# Altium footprint library 继电器.PcbLib: 48 footprints (part 3 of 3)
Each footprint in its own frame and in the unit in brackets; x right, y up, seen from the top. Pads: shape width x height; smd on the part's side, far side on the other; paste and mask are expansions set on the pad; w line width, h text height; cw(c..) or ccw(c..) is an arc to the next point about the centre after c.
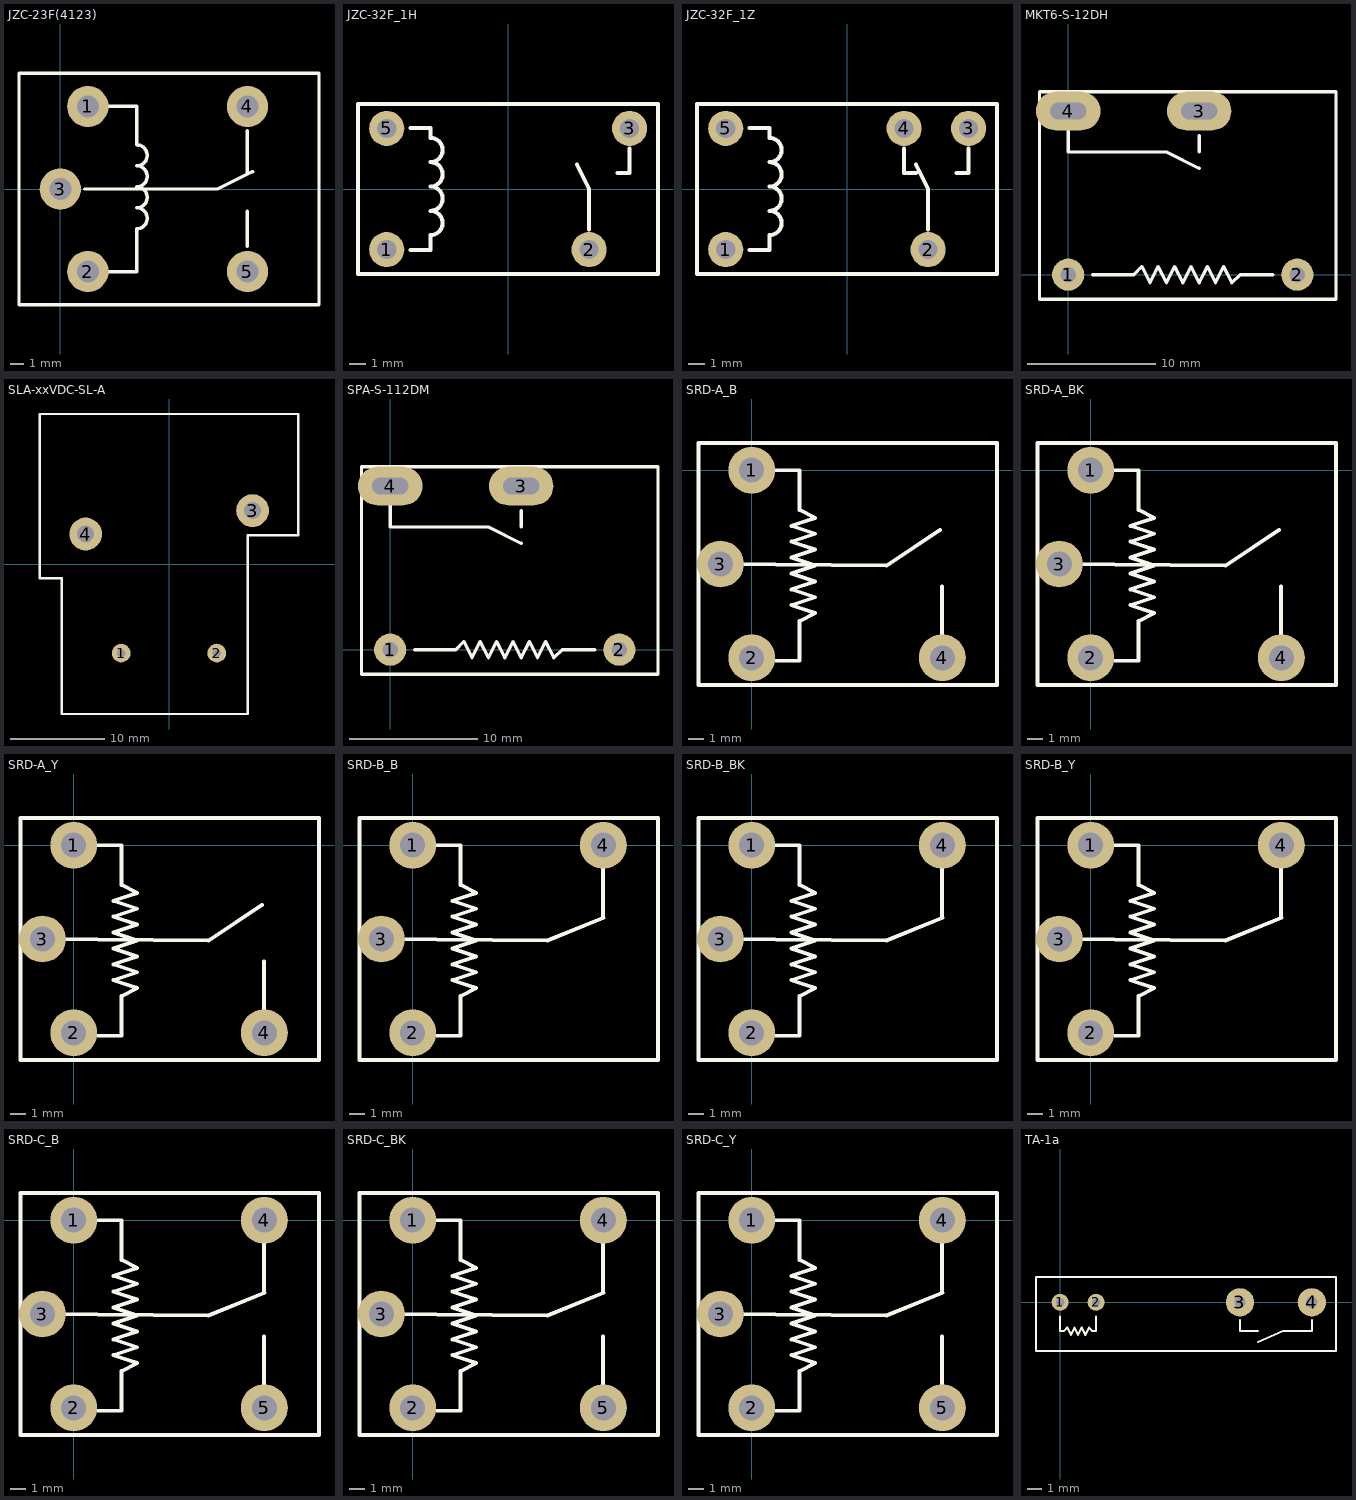
[diagram p2: the footprints below, top view; thin cyan lines are the x and y axes]

## JZC-23F(4123) [mm] "单刀双投"
pads (5):
  round 3 hole 1.6: 1(2,6) 2(2,-6) 3(0,0) 4(13.6,6) 5(13.6,-6)
Top Overlay:
  lines w0.254: 1.778,0 11.43,0 13.97,1.27 ; 3.524,-6 5.556,-6 5.556,-2.89 ccw(c5.556,-2.128) 5.556,-1.366 ccw(c5.556,-0.604) 5.556,0.158 ccw(c5.556,0.92) 5.556,1.682 ccw(c5.556,2.444) 5.556,3.206 5.556,6 3.524,6 ; 13.6,-4.16 13.6,-1.62 ; 13.6,1.174 13.6,4.222 ; -3,-8.4 18.8,-8.4 18.8,8.4 -3,8.4 -3,-8.4
3D body "JZC-23F(4123)-.STEP": height 16.1, standoff -4, extent -2.899,-8.382 18.901,8.418

## JZC-32F_1H [mm] "单刀常开,长：18.4mm，宽：10.2mm，高：15.3mm"
pads (4):
  round 2.2 hole 1.2: 1(-7.6,-3.8) 2(5.08,-3.8) 3(7.62,3.8) 5(-7.6,3.8)
Top Overlay:
  lines w0.25: 4.318,1.524 5.08,0 5.08,-2.54 ; 6.858,1.016 7.62,1.016 7.62,2.54 ; -9.398,-5.334 -9.398,5.334 9.398,5.334 9.398,-5.334 -9.398,-5.334
  lines w0.254: -6.096,-3.81 -4.858,-3.81 -4.858,-2.89 ccw(c-4.858,-2.128) -4.858,-1.366 ccw(c-4.858,-0.604) -4.858,0.158 ccw(c-4.858,0.92) -4.858,1.682 ccw(c-4.858,2.444) -4.858,3.206 -4.858,3.81 -6.096,3.81
3D body "JZC-32F_1H-.STEP": height 15.75, standoff -3.55, extent -9.2,-5.12 9.2,5.08

## JZC-32F_1Z [mm] "单刀双投,长：18.4mm，宽：10.2mm，高：15.3mm"
pads (5):
  round 2.2 hole 1.2: 1(-7.6,-3.8) 2(5.08,-3.8) 3(7.62,3.8) 4(3.58,3.8) 5(-7.6,3.8)
Top Overlay:
  lines w0.25: 3.556,2.54 3.556,1.016 4.318,1.016 ; 4.318,1.524 5.08,0 5.08,-2.54 ; 6.858,1.016 7.62,1.016 7.62,2.54 ; -9.398,-5.334 9.398,-5.334 9.398,5.334 -9.398,5.334 -9.398,-5.334
  lines w0.254: -6.096,-3.81 -4.858,-3.81 -4.858,-2.89 ccw(c-4.858,-2.128) -4.858,-1.366 ccw(c-4.858,-0.604) -4.858,0.158 ccw(c-4.858,0.92) -4.858,1.682 ccw(c-4.858,2.444) -4.858,3.206 -4.858,3.81 -6.096,3.81
3D body "JZC-32F_1Z-.STEP": height 15.75, standoff -3.55, extent -9.2,-5.12 9.2,5.08

## MKT6-S-12DH [mm] "单刀单投/常开"
pads (4):
  round 2.5 hole 1.2: 1(0,0) 2(17.78,0)
  oval 5x3 hole 1.3 slot 2.8 at 0 deg: 3(10.16,12.7) 4(0,12.7)
Top Overlay:
  lines w0.254: 0,11.43 0,9.525 6.985,9.525 7.62,9.525 10.16,8.255 ; 1.905,0 5.08,0 5.715,0.635 6.35,-0.635 6.985,0.635 7.62,-0.635 8.255,0.635 8.89,-0.635 9.525,0.635 10.16,-0.635 10.795,0.635 11.43,-0.635 12.065,0.635 12.7,-0.635 13.335,0 15.875,0 ; 10.16,9.525 10.16,10.795 ; -2.22,-1.9 20.78,-1.9 20.78,14.2 -2.22,14.2 -2.22,-1.9
3D body "MKT6-S-12DH-.STEP": height 10.2, standoff -3.9, extent -2.229,-1.876 20.771,14.224

## SLA-xxVDC-SL-A [mm] "一组常开，长：32mm，宽：27.6mm，高：20mm"
pads (4):
  round 2 hole 0.9: 1(-5.1,-9.5) 2(5.1,-9.5)
  round 3.5 hole 1.8: 3(8.91,5.7) 4(-8.89,3.2)
Top Overlay:
  lines w0.254: -13.8,-1.522 -11.43,-1.522 -11.43,-16 8.382,-16 8.382,3.05 13.8,3.05 13.8,16.002 -13.8,16.002 -13.8,-1.522
3D body "SLA-xxVDC-SL-A-.STEP": height 20.65, standoff -2.95, extent -13.843,-15.873 13.757,16.127

## SPA-S-112DM [mm] "单刀单投/常开"
pads (4):
  round 2.5 hole 1.2: 1(0,0) 2(17.78,0)
  oval 5x3 hole 1.3 slot 2.8 at 0 deg: 3(10.16,12.7) 4(0,12.7)
Top Overlay:
  lines w0.254: 0,11.43 0,9.525 6.985,9.525 7.62,9.525 10.16,8.255 ; 1.905,0 5.08,0 5.715,0.635 6.35,-0.635 6.985,0.635 7.62,-0.635 8.255,0.635 8.89,-0.635 9.525,0.635 10.16,-0.635 10.795,0.635 11.43,-0.635 12.065,0.635 12.7,-0.635 13.335,0 15.875,0 ; 10.16,9.525 10.16,10.795 ; -2.22,-1.9 20.78,-1.9 20.78,14.2 -2.22,14.2 -2.22,-1.9
3D body "SPA-S-112DM-.STEP": height 10.2, standoff -3.9, extent -2.286,-1.954 20.714,14.146

## SRD-A_B [mm] "单刀单投/常开"
pads (4):
  round 3 hole 1.6: 1(0,0) 2(0,-12) 3(-2,-6) 4(12.2,-12)
Top Overlay:
  lines w0.254: -2,-6 8.636,-6.096 12.065,-3.81 ; 1.524,-12.192 3.048,-12.192 3.048,-10.668 3.048,-9.652 4.064,-9.144 2.54,-8.636 4.064,-8.128 2.54,-7.62 4.064,-7.112 2.54,-6.604 4.064,-6.096 2.54,-5.588 4.064,-5.08 2.54,-4.572 4.064,-4.064 2.54,-3.556 4.064,-3.048 3.048,-2.54 3.048,0 1.524,0 ; 12.192,-10.668 12.192,-8.636 ; 12.192,-9.144 12.192,-7.429 ; -3.4,-13.75 -3.4,1.75 15.7,1.75 15.7,-13.75 -3.4,-13.75
3D body "SRD-A_B-.STEP": height 15.6, standoff -3.4, extent -3.429,-13.719 15.671,1.781

## SRD-A_BK [mm] "单刀单投/常开"
pads (4):
  round 3 hole 1.6: 1(0,0) 2(0,-12) 3(-2,-6) 4(12.2,-12)
Top Overlay:
  lines w0.254: -2,-6 8.636,-6.096 12.065,-3.81 ; 1.524,-12.192 3.048,-12.192 3.048,-10.668 3.048,-9.652 4.064,-9.144 2.54,-8.636 4.064,-8.128 2.54,-7.62 4.064,-7.112 2.54,-6.604 4.064,-6.096 2.54,-5.588 4.064,-5.08 2.54,-4.572 4.064,-4.064 2.54,-3.556 4.064,-3.048 3.048,-2.54 3.048,0 1.524,0 ; 12.192,-10.668 12.192,-8.636 ; 12.192,-9.144 12.192,-7.429 ; -3.4,-13.75 15.7,-13.75 15.7,1.75 -3.4,1.75 -3.4,-13.75
3D body "SRD-A_BK-.STEP": height 15.6, standoff -3.4, extent -3.302,-13.719 15.798,1.781

## SRD-A_Y [mm] "单刀单投/常开"
pads (4):
  round 3 hole 1.6: 1(0,0) 2(0,-12) 3(-2,-6) 4(12.2,-12)
Top Overlay:
  lines w0.254: -2,-6 8.636,-6.096 12.065,-3.81 ; 1.524,-12.192 3.048,-12.192 3.048,-10.668 3.048,-9.652 4.064,-9.144 2.54,-8.636 4.064,-8.128 2.54,-7.62 4.064,-7.112 2.54,-6.604 4.064,-6.096 2.54,-5.588 4.064,-5.08 2.54,-4.572 4.064,-4.064 2.54,-3.556 4.064,-3.048 3.048,-2.54 3.048,0 1.524,0 ; 12.192,-10.668 12.192,-8.636 ; 12.192,-9.144 12.192,-7.429 ; -3.4,-13.75 -3.4,1.75 15.7,1.75 15.7,-13.75 -3.4,-13.75
3D body "SRD-A_Y-.STEP": height 15.6, standoff -3.4, extent -3.429,-13.719 15.671,1.781

## SRD-B_B [mm] "单刀单投/常闭"
pads (4):
  round 3 hole 1.6: 1(0,0) 2(0,-12) 3(-2,-6) 4(12.2,0)
Top Overlay:
  lines w0.254: -2,-6 8.636,-6.096 12.22,-4.64 ; 1.524,-12.192 3.048,-12.192 3.048,-10.668 3.048,-9.652 4.064,-9.144 2.54,-8.636 4.064,-8.128 2.54,-7.62 4.064,-7.112 2.54,-6.604 4.064,-6.096 2.54,-5.588 4.064,-5.08 2.54,-4.572 4.064,-4.064 2.54,-3.556 4.064,-3.048 3.048,-2.54 3.048,0 1.524,0 ; 12.192,-4.572 12.192,-1.524 ; -3.4,-13.75 -3.4,1.75 15.7,1.75 15.7,-13.75 -3.4,-13.75
3D body "SRD-B_B-.STEP": height 15.6, standoff -3.4, extent -3.429,-13.846 15.671,1.654

## SRD-B_BK [mm] "单刀单投/常闭"
pads (4):
  round 3 hole 1.6: 1(0,0) 2(0,-12) 3(-2,-6) 4(12.2,0)
Top Overlay:
  lines w0.254: -2,-6 8.636,-6.096 12.22,-4.64 ; 1.524,-12.192 3.048,-12.192 3.048,-10.668 3.048,-9.652 4.064,-9.144 2.54,-8.636 4.064,-8.128 2.54,-7.62 4.064,-7.112 2.54,-6.604 4.064,-6.096 2.54,-5.588 4.064,-5.08 2.54,-4.572 4.064,-4.064 2.54,-3.556 4.064,-3.048 3.048,-2.54 3.048,0 1.524,0 ; 12.192,-4.572 12.192,-1.524 ; -3.4,-13.75 -3.4,1.75 15.7,1.75 15.7,-13.75 -3.4,-13.75
3D body "SRD-B_BK-.STEP": height 15.6, standoff -3.4, extent -3.327,-13.843 15.773,1.657

## SRD-B_Y [mm] "单刀单投/常闭"
pads (4):
  round 3 hole 1.6: 1(0,0) 2(0,-12) 3(-2,-6) 4(12.2,0)
Top Overlay:
  lines w0.254: -2,-6 8.636,-6.096 12.22,-4.64 ; 1.524,-12.192 3.048,-12.192 3.048,-10.668 3.048,-9.652 4.064,-9.144 2.54,-8.636 4.064,-8.128 2.54,-7.62 4.064,-7.112 2.54,-6.604 4.064,-6.096 2.54,-5.588 4.064,-5.08 2.54,-4.572 4.064,-4.064 2.54,-3.556 4.064,-3.048 3.048,-2.54 3.048,0 1.524,0 ; 12.192,-4.572 12.192,-1.524 ; -3.4,-13.75 -3.4,1.75 15.7,1.75 15.7,-13.75 -3.4,-13.75
3D body "SRD-B_Y-.STEP": height 15.6, standoff -3.4, extent -3.273,-13.591 15.827,1.909

## SRD-C_B [mm] "单刀双投"
pads (5):
  round 3 hole 1.6: 1(0,0) 2(0,-12) 3(-2,-6) 4(12.2,0) 5(12.2,-12)
Top Overlay:
  lines w0.254: -2,-6 8.636,-6.096 12.22,-4.64 ; 1.524,-12.192 3.048,-12.192 3.048,-10.668 3.048,-9.652 4.064,-9.144 2.54,-8.636 4.064,-8.128 2.54,-7.62 4.064,-7.112 2.54,-6.604 4.064,-6.096 2.54,-5.588 4.064,-5.08 2.54,-4.572 4.064,-4.064 2.54,-3.556 4.064,-3.048 3.048,-2.54 3.048,0 1.524,0 ; 12.192,-10.668 12.192,-8.636 ; 12.192,-9.144 12.192,-7.429 ; 12.192,-4.572 12.192,-1.524 ; -3.4,-13.75 15.7,-13.75 15.7,1.75 -3.4,1.75 -3.4,-13.75
3D body "SRD-C_B-.STEP": height 15.6, standoff -3.4, extent -3.327,-13.849 15.773,1.651

## SRD-C_BK [mm] "单刀双投"
pads (5):
  round 3 hole 1.6: 1(0,0) 2(0,-12) 3(-2,-6) 4(12.2,0) 5(12.2,-12)
Top Overlay:
  lines w0.254: -2,-6 8.636,-6.096 12.22,-4.64 ; 1.524,-12.192 3.048,-12.192 3.048,-10.668 3.048,-9.652 4.064,-9.144 2.54,-8.636 4.064,-8.128 2.54,-7.62 4.064,-7.112 2.54,-6.604 4.064,-6.096 2.54,-5.588 4.064,-5.08 2.54,-4.572 4.064,-4.064 2.54,-3.556 4.064,-3.048 3.048,-2.54 3.048,0 1.524,0 ; 12.192,-10.668 12.192,-8.636 ; 12.192,-9.144 12.192,-7.429 ; 12.192,-4.572 12.192,-1.524 ; -3.4,-13.75 15.7,-13.75 15.7,1.75 -3.4,1.75 -3.4,-13.75
3D body "SRD-C_BK-.STEP": height 15.6, standoff -3.4, extent -3.327,-13.722 15.773,1.778

## SRD-C_Y [mm] "单刀双投"
pads (5):
  round 3 hole 1.6: 1(0,0) 2(0,-12) 3(-2,-6) 4(12.2,0) 5(12.2,-12)
Top Overlay:
  lines w0.254: -2,-6 8.636,-6.096 12.22,-4.64 ; 1.524,-12.192 3.048,-12.192 3.048,-10.668 3.048,-9.652 4.064,-9.144 2.54,-8.636 4.064,-8.128 2.54,-7.62 4.064,-7.112 2.54,-6.604 4.064,-6.096 2.54,-5.588 4.064,-5.08 2.54,-4.572 4.064,-4.064 2.54,-3.556 4.064,-3.048 3.048,-2.54 3.048,0 1.524,0 ; 12.192,-10.668 12.192,-8.636 ; 12.192,-9.144 12.192,-7.429 ; 12.192,-4.572 12.192,-1.524 ; -3.4,-13.75 -3.4,1.75 15.7,1.75 15.7,-13.75 -3.4,-13.75
3D body "SRD-C_Y-.STEP": height 15.6, standoff -3.4, extent -3.302,-13.719 15.798,1.781

## TA-1a [mm] "微功耗超薄继电器21mm*5mm*12.5mm(长*宽*高)"
pads (4):
  round 1.2 hole 0.6: 1(0,0) 2(2.54,0)
  round 2 hole 0.8: 3(12.7,0) 4(17.78,0)
Top Overlay:
  lines w0.152: 0,-1.016 0,-2.032 0.254,-2.032 0.508,-1.778 0.762,-2.286 1.016,-1.778 1.27,-2.286 1.524,-1.778 1.778,-2.286 2.032,-1.778 2.286,-2.032 2.54,-2.032 2.54,-1.016 ; 12.7,-1.27 12.7,-2.032 13.97,-2.032 ; 13.97,-2.794 15.748,-2.032 17.78,-2.032 17.78,-1.27 ; -1.702,-3.429 -1.702,1.778 19.482,1.778 19.482,-3.429 -1.702,-3.429
3D body "TA-1a-.STEP": height 12.55, standoff -3.45, extent -1.696,-3.262 19.304,1.738